# Altium integrated library poleviki.IntLib: 2 symbols
Pins are listed as number, name and electrical type; pins without a type are passive.

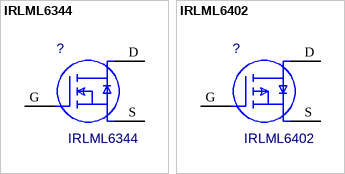
[diagram p0: symbols IRLML6344 to IRLML6402]

## IRLML6344
designator ?
Value: *
footprint MICRO3_IRLML6344(Primary)
pins: D 3, G 1, S 2

## IRLML6402
designator ?
Value: *
footprint MICRO3_IRLML6402(Primary)
pins: D 3, G 1, S 2